# EAGLE library part SW_DIP04 (library common)
DIP SWITCH
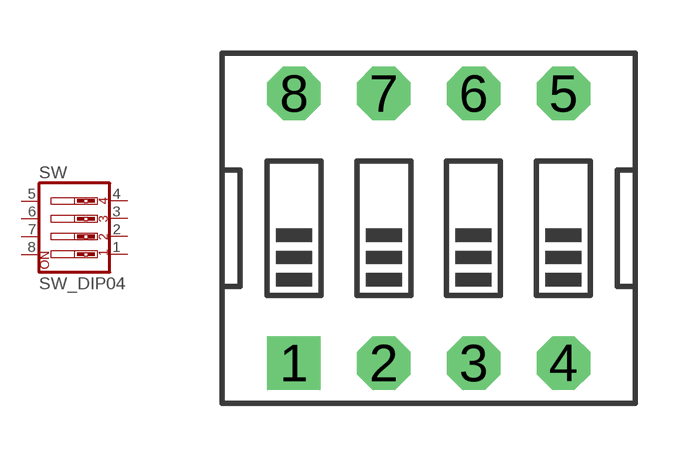
[diagram p36: symbol with the pads of EDG-04; footprint EDG-04]

Designator prefix SW

## SW_DIP04  [EDG-04]
1  1  pas
2  2  pas
3  3  pas
4  4  pas
5  5  pas
6  6  pas
7  7  pas
8  8  pas

## Footprint EDG-04 (pad centres in mm)
DIP SWITCH
drill 1 square: 1 -3.81,-3.81
drill 1 octagon: 2 -1.27,-3.81; 3 1.27,-3.81; 4 3.81,-3.81; 5 3.81,3.81; 6 1.27,3.81; 7 -1.27,3.81; 8 -3.81,3.81